# EAGLE library part SIP8XA (library rezistory)
Rezistorová sít
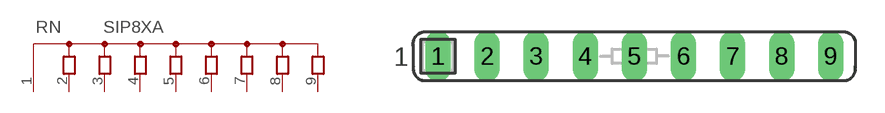
[diagram p7: symbol with the pads of SIL9; footprint SIL9]

Designator prefix RN

## SIP8XA  [SIL9]
1  IN  pas
2  B8  pas
3  B7  pas
4  B6  pas
5  B5  pas
6  B4  pas
7  B3  pas
8  B2  pas
9  B1  pas

## Footprint SIL9 (pad centres in mm)
drill 0.813 long: 1 -10.16,0; 2 -7.62,0; 3 -5.08,0; 4 -2.54,0; 5 0,0; 6 2.54,0; 7 5.08,0; 8 7.62,0; 9 10.16,0